# Altium schematic symbol library Terminal Blocks - Headers, Plugs and Sockets.SchLib: 2 symbols
Pins are listed as number, name and electrical type; pins without a type are passive.

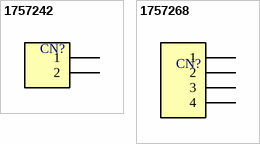
[diagram p0: symbols 1757242 to 1757268]

## 1757242
designator CN?  (value not drawn)
TERM BLOCK HDR 2POS 90DEG 5.08MM; Supplier 1: Digi-Key; Supplier 2: Farnell; Supplier 3: Mouser; Supplier 4: Arrow Electronics; Supplier Part Number 1: 277-1106-ND; Supplier Part Number 2: 3705171; Supplier Part Number 3: 651-1757242; Supplier Part Number 4: 1757242
footprint PHOENIX_1757242
pins: 1, 2

## 1757268
designator CN?  (value not drawn)
TERM BLOCK HDR 4POS 90DEG 5.08MM; Supplier 1: Digi-Key; Supplier 2: Farnell; Supplier 3: Mouser; Supplier 4: Arrow Electronics; Supplier Part Number 1: 277-1108-ND; Supplier Part Number 2: 3705195; Supplier Part Number 3: 651-1757268; Supplier Part Number 4: 1757268
footprint PHOENIX_1757268
pins: 1, 2, 3, 4